# Altium schematic symbol library shematic_lib.SchLib: 6 symbols
Pins are listed as number, name and electrical type; pins without a type are passive.

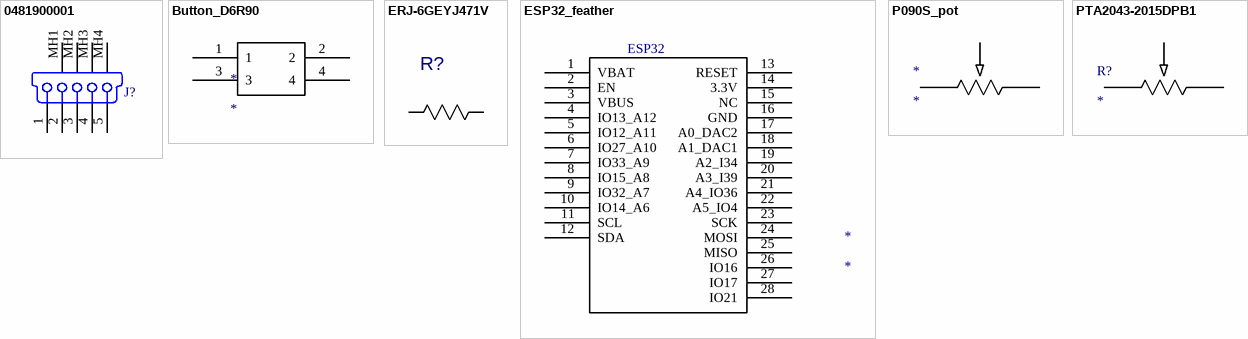
[diagram p0: symbols 0481900001 to PTA2043-2015DPB1]

## 0481900001
designator J?
USB On-The-Go (OTG) Mini-B Receptacle, Right Angle, SMT, 0.80mm (.031") Pitch, Solder Tabs with Back Cover, Recessed Type; PCB_Layout: Complies with Manufacturer's Recommendation.; Published: 21-Sep-2007; DatasheetVersion: revA, May-2004; PackageVersion: May-2004; PackageReference: 481900001; Publisher: Altium Limited; PackageDescription: USB Mini-B, Sinking Type, SM; 5 Position; Right Angle, Body 11.45 x 11.8 x 3.9 mm (LxWxH); ComponentLink1Description: Manufacturer Link; ComponentLink1URL: http://www.molex.com/; ComponentLink2Description: Datasheet; ComponentLink2URL: http://www.molex.com/cmc_upload/0/000/895/958/SD-48190-001RevA.pdf
footprint 481900001 (Connector; USB Mini-B, Sinking Type, SM; 5 Position; Right Angle)
signal-integrity model USB Mini-B
pins: 1 V BUS (5V) "USB Vcc [Red]", 2 D- "USB Data - [White]", 3 D+ "USB Data + [Green]", 4 NC "Not Connected (or joined to pin 5 via resistor)", 5 GND "Ground [Black]", MH1 Tab "Shell", MH2 Tab "Shell", MH3 Tab "Shell", MH4 Tab "Shell"

## Button_D6R90
designator *
footprint Button_D6R90
pins: 1, 2, 3, 4

## ERJ-6GEYJ471V
designator R?  (value not drawn)
C: Copyright (C) 2015 Accelerated Designs. All rights reserved; Vendor: Panasonic; Built_By: EMA_UL_Team; Manufacturer_Part_Number: ERJ-6GEYJ471V
footprint RC0805N
pins: 1, 2
1 alternate drawing of the same symbol

## ESP32_feather
designator *
footprint ESP32_feather
pins: 1 VBAT (power), 2 EN, 3 VBUS, 4 IO13_A12, 5 IO12_A11, 6 IO27_A10, 7 IO33_A9, 8 IO15_A8, 9 IO32_A7, 10 IO14_A6, 11 SCL, 12 SDA, 13 RESET, 14 3.3V, 15 NC, 16 GND, 17 A0_DAC2, 18 A1_DAC1, 19 A2_I34, 20 A3_I39, 21 A4_IO36, 22 A5_IO4, 23 SCK, 24 MOSI, 25 MISO, 26 IO16, 27 IO17, 28 IO21
text: ESP32

## P090S_pot
designator *
footprint P090S_pot
pins: 1, 2, 3

## PTA2043-2015DPB1
designator R?
Imported; Manufacturer_Part_Number: PTA2043-2015DPB103; Vendor: Bourns Electronics; Built_By: EMA_UL_Team; C: Copyright (C) 2015 Accelerated Designs. All rights reserved; Value: Value
pins: 1, 2, 3